# EAGLE library part BENS_LIBRARY_CDNBS08-SLVU2.8-8 (library BBB_ADS1271_front_panel)
Bourns CDNBS08-SLVU2.8-8 Quad Bi-Directional TVS Diode, 600W peak, 8-Pin SOIC http://au.rs-online.com/web/p/products/7734551/
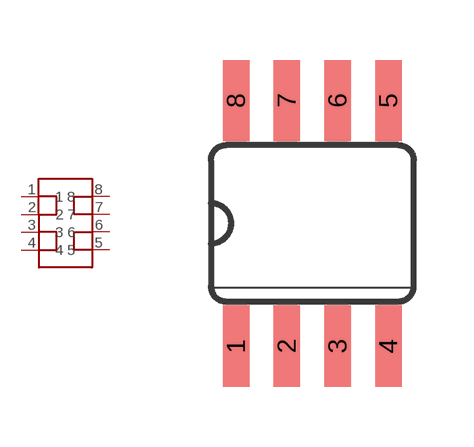
[diagram p1: symbol with the pads of BENS_LIBRARY_SO08; footprint BENS_LIBRARY_SO08]

Designator prefix -

## BENS_LIBRARY_CDNBS08-SLVU2.8-8SO8  [BENS_LIBRARY_SO08]
1  1
2  2
3  3
4  4
5  5
6  6
7  7
8  8

## Footprint BENS_LIBRARY_SO08 (pad centres in mm)
smd 0.66 x 2.032: 1 -1.905,-3.073; 2 -0.635,-3.073; 3 0.635,-3.073; 4 1.905,-3.073; 5 1.905,3.073; 6 0.635,3.073; 7 -0.635,3.073; 8 -1.905,3.073